# EAGLE library part SENSOR/L3GD20 (library MyParts)
CHARGE MANAGEMENT IC
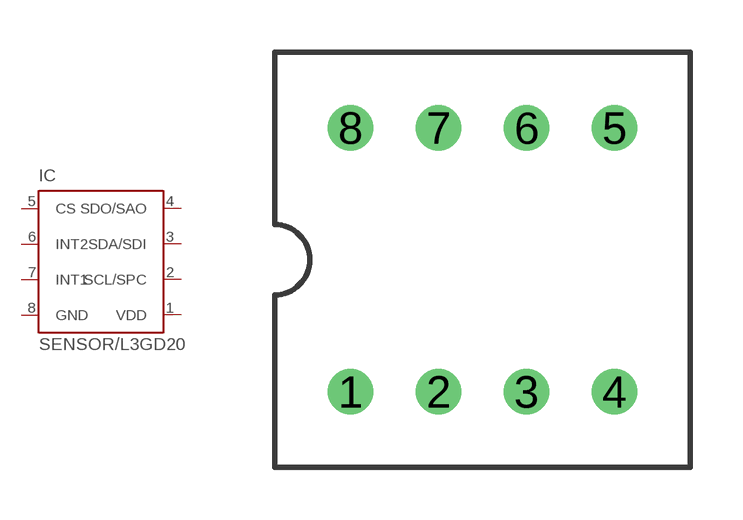
[diagram p1: symbol with the pads of SENSOR/GYRO/120-120; footprint SENSOR/GYRO/120-120]

Designator prefix IC

## SENSOR/L3GD20 (MF: TEXAS INSTRUMENT CONNECTORS; MPN: BQ2002TPN; OC_FARNELL: 8409668; OC_NEWARK: 74C7526)  [SENSOR/GYRO/120-120]
1  VDD  in
2  SCL/SPC  in
3  SDA/SDI  oc
4  SDO/SAO  oc
5  CS  pwr
6  INT2  nc
7  INT1  nc
8  GND  pwr

## Footprint SENSOR/GYRO/120-120 (pad centres in mm)
Dual In Line Package
drill 0.813 pad 1.27: 1 -3.81,-3.81; 2 -1.27,-3.81; 3 1.27,-3.81; 4 3.81,-3.81; 5 3.81,3.81; 6 1.27,3.81; 7 -1.27,3.81; 8 -3.81,3.81